# EAGLE library part 555X-22 (library con-molex-2)
Mini FIT connector 22 way
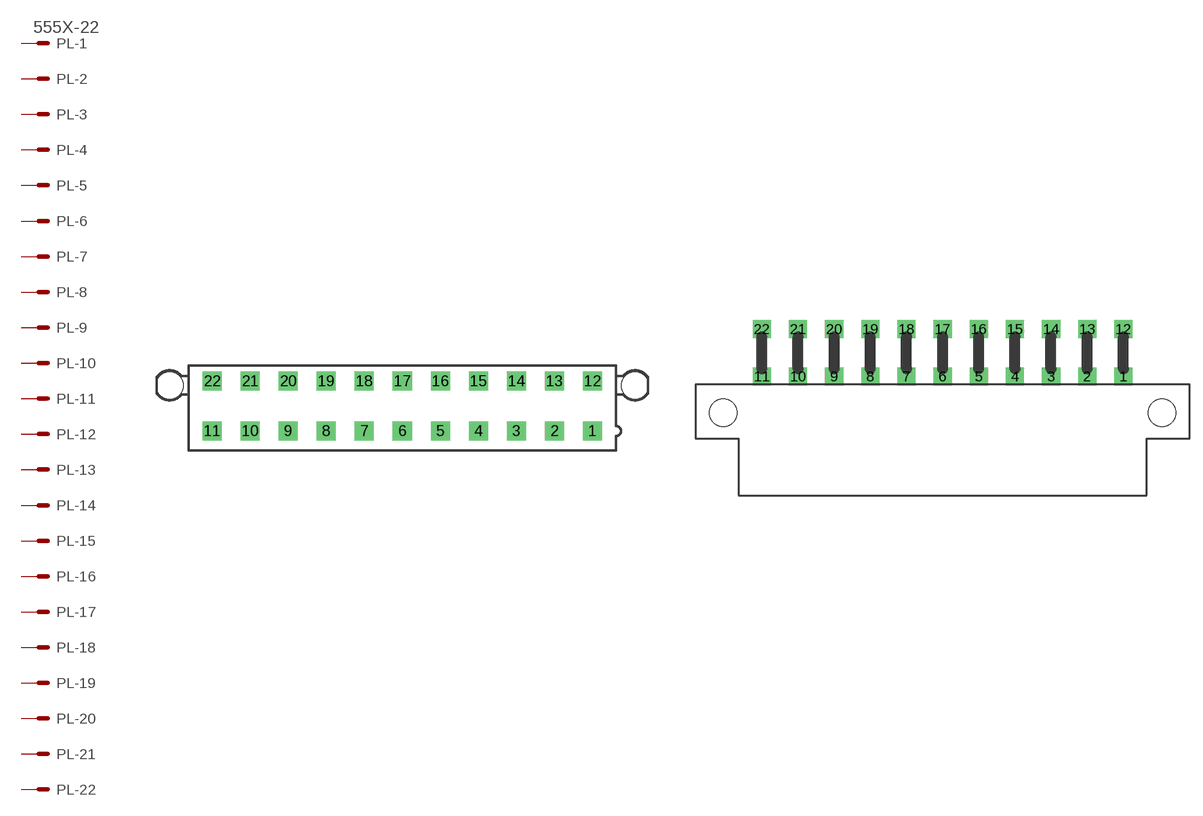
[diagram p8: symbol with the pads of 5566-22; footprints 5566-22, 5569-22]

Designator prefix PL; gates -1=MV -2=M -3=M -4=M -5=M -6=M -7=M -8=M -9=M -10=M -11=M -12=M -13=M -14=M -15=M -16=M -17=M -18=M -19=M -20=M -21=M -22=M

## 555X-22V  [5566-22]
1  -1:S  pas
2  -2:S  pas
3  -3:S  pas
4  -4:S  pas
5  -5:S  pas
6  -6:S  pas
7  -7:S  pas
8  -8:S  pas
9  -9:S  pas
10  -10:S  pas
11  -11:S  pas
12  -12:S  pas
13  -13:S  pas
14  -14:S  pas
15  -15:S  pas
16  -16:S  pas
17  -17:S  pas
18  -18:S  pas
19  -19:S  pas
20  -20:S  pas
21  -21:S  pas
22  -22:S  pas

## 555X-22H  [5569-22]
Pads as for 5566-22

## Footprint 5566-22 (pad centres in mm)
Mini FIT connector 22 pol
drill 1.4 square: 1 21,-2.75; 2 16.8,-2.75; 3 12.6,-2.75; 4 8.4,-2.75; 5 4.2,-2.75; 6 0,-2.75; 7 -4.2,-2.75; 8 -8.4,-2.75; 9 -12.6,-2.75; 10 -16.8,-2.75; 11 -21,-2.75; 12 21,2.75; 13 16.8,2.75; 14 12.6,2.75; 15 8.4,2.75; 16 4.2,2.75; 17 0,2.75; 18 -4.2,2.75; 19 -8.4,2.75; 20 -12.6,2.75; 21 -16.8,2.75; 22 -21,2.75
hole 3 at 25.7,2.29
hole 3 at -25.7,2.29

## Footprint 5569-22 (pad centres in mm)
Mini FIT connector 22 R/A
drill 1.4 square: 1 21,0; 2 16.8,0; 3 12.6,0; 4 8.4,0; 5 4.2,0; 6 0,0; 7 -4.2,0; 8 -8.4,0; 9 -12.6,0; 10 -16.8,0; 11 -21,0; 12 21,5.5; 13 16.8,5.5; 14 12.6,5.5; 15 8.4,5.5; 16 4.2,5.5; 17 0,5.5; 18 -4.2,5.5; 19 -8.4,5.5; 20 -12.6,5.5; 21 -16.8,5.5; 22 -21,5.5
hole 3.2 at 25.5,-4.2
hole 3.2 at -25.5,-4.2